# Altium schematic symbol library 8A34004E-000NBG.SchLib: 2 symbols
Pins are listed as number, name and electrical type; pins without a type are passive.

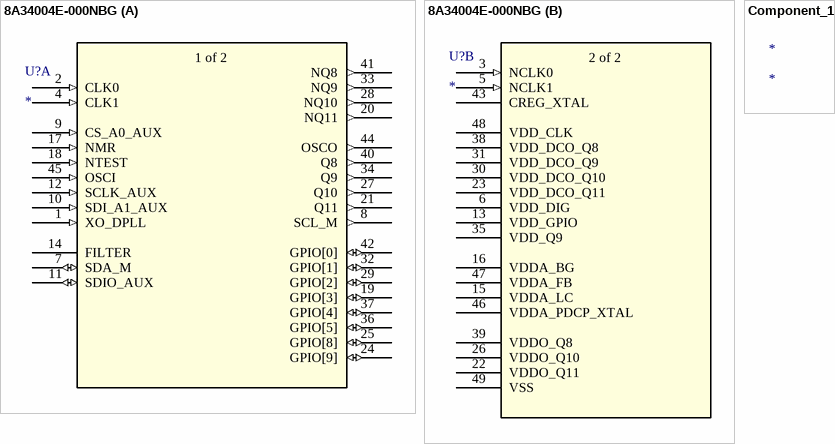
[diagram p0: symbols 8A34004E-000NBG to Component_1]

## 8A34004E-000NBG
designator U?
No Description Available; Mfr_Name: Renesas Electronics; RefDes: RefDes; Type: Type
footprint NBG48P1_REN
part A pins: 1 XO_DPLL (in), 2 CLK0 (in), 4 CLK1 (in), 7 SDA_M (io), 8 SCL_M (out), 9 CS_A0_AUX (in), 10 SDI_A1_AUX (in), 11 SDIO_AUX (io), 12 SCLK_AUX (in), 14 FILTER, 17 NMR (in), 18 NTEST (in), 19 GPIO[3] (io), 20 NQ11 (out), 21 Q11 (out), 24 GPIO[9] (io), 25 GPIO[8] (io), 27 Q10 (out), 28 NQ10 (out), 29 GPIO[2] (io), 32 GPIO[1] (io), 33 NQ9 (out), 34 Q9 (out), 36 GPIO[5] (io), 37 GPIO[4] (io), 40 Q8 (out), 41 NQ8 (out), 42 GPIO[0] (io), 44 OSCO (out), 45 OSCI (in)
part B pins: 3 NCLK0 (in), 5 NCLK1 (in), 6 VDD_DIG (power), 13 VDD_GPIO (power), 15 VDDA_LC (power), 16 VDDA_BG (power), 22 VDDO_Q11 (power), 23 VDD_DCO_Q11 (power), 26 VDDO_Q10 (power), 30 VDD_DCO_Q10 (power), 31 VDD_DCO_Q9 (power), 35 VDD_Q9 (power), 38 VDD_DCO_Q8 (power), 39 VDDO_Q8 (power), 43 CREG_XTAL (power), 46 VDDA_PDCP_XTAL (power), 47 VDDA_FB (power), 48 VDD_CLK (power), 49 VSS (power)
part A text: 1 of 2
part B text: 2 of 2

## Component_1
designator *